# EAGLE library part ACJC5H (library josh)
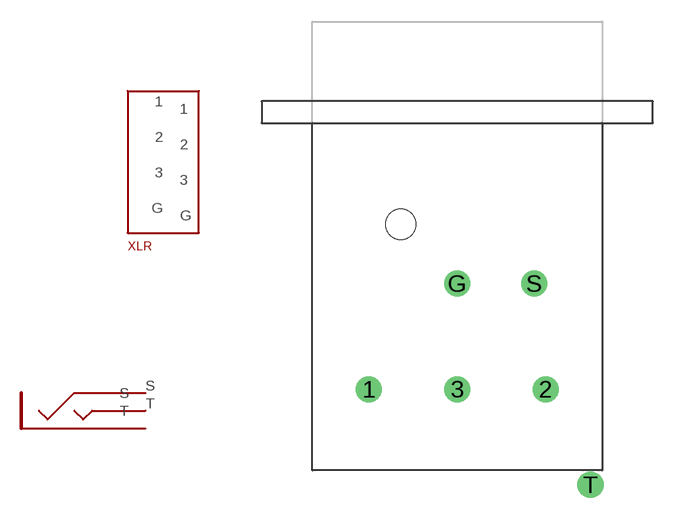
[diagram p6: symbol with the pads of ACJC5H; footprint ACJC5H]

Designator prefix -; gates G$1=XLR G$2=JACK

## ACJC5H  [ACJC5H]
1  G$1:1  pas
2  G$1:2  pas
3  G$1:3  pas
G  G$1:G  pas
S  G$2:S  pas
T  G$2:T  pas

## Footprint ACJC5H (pad centres in mm)
drill 1.2: 1 -6.1,-18.4; 2 6.1,-18.4; 3 0,-18.4; G 0,-11.1; S 5.3,-11.1; T 9.2,-25
hole 2.1 at -3.9,-7